# Altium footprint library Crystall.PcbLib: 10 footprints
Each footprint in its own frame and in the unit in brackets; x right, y up, seen from the top. Pads: shape width x height; smd on the part's side, far side on the other; paste and mask are expansions set on the pad; w line width, h text height; cw(c..) or ccw(c..) is an arc to the next point about the centre after c.
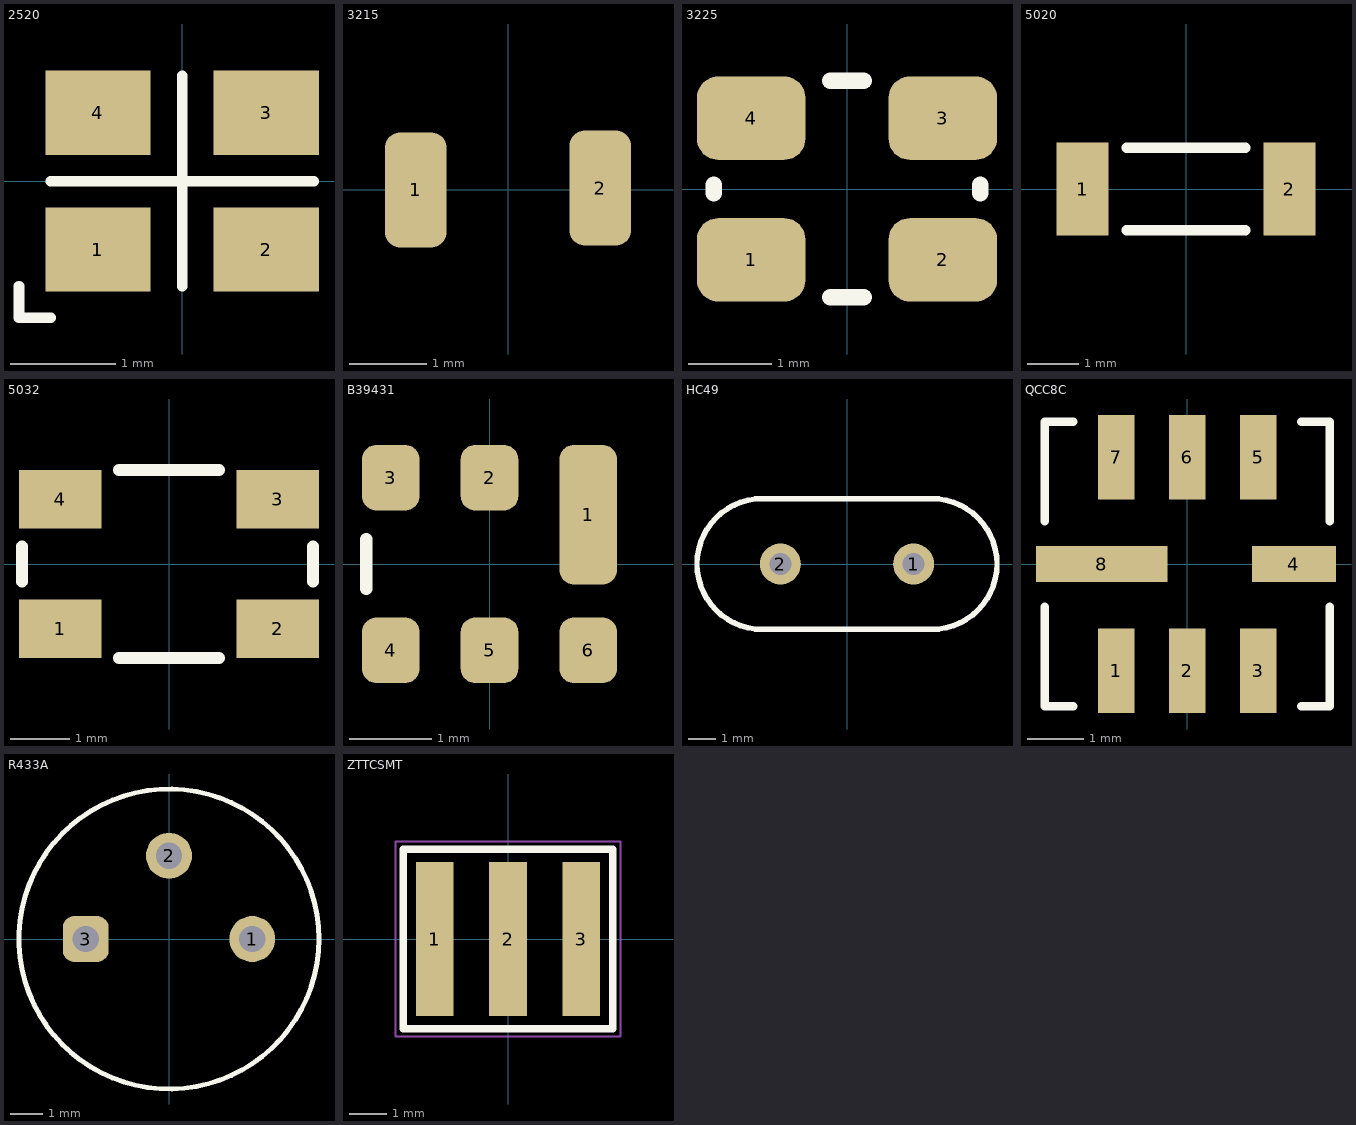
[diagram p0: the footprints below, top view; thin cyan lines are the x and y axes]

## 2520 [mm] "2.5x2.0x0.82mm Crystal"
height 0.8
pads (4):
  rect 1x0.8 smd: 1(-0.8,-0.65) 2(0.8,-0.65) 3(0.8,0.65) 4(-0.8,0.65)
Top Overlay:
  lines w0.1: -1.55,-1 -1.55,-1.3 -1.25,-1.3 ; -1.25,0 1.25,0 ; 0,-1 0,1
3D body "User Library-SM2520-4.step": height 0.8, standoff -0.03, extent -1.25,-1 1.25,1

## 3215 [mm]
pads (2):
  rrect50% 0.8x1.5 smd: 1(-1.2,0) 2(1.2,0.025)
3D body "User Library-KX-327NHT-1.step": height 0.72, standoff 0.01, extent -1.6,-0.75 1.6,0.75

## 3225 [mm] "3.2x2.5x0.8mm Crystal"
height 0.8
pads (4):
  rrect50% 1.3x1 smd: 1(-1.15,-0.85) 2(1.15,-0.85) 3(1.15,0.85) 4(-1.15,0.85)
Top Overlay:
  lines w0.2: -1.6,-0.05 -1.6,0.05 ; -0.2,-1.3 0.2,-1.3 ; -0.2,1.3 0.2,1.3 ; 1.6,-0.05 1.6,0.05
3D body "KX7.STEP": height 0.82, standoff 0.02, extent -1.607,-1.25 1.607,1.25

## 5020 [mm]
pads (2):
  rect 1x1.8 smd mask+0.1: 1(-2,0) 2(2,0)
Top Overlay:
  lines w0.2: -1.15,-0.8 1.15,-0.8 ; -1.15,0.8 1.15,0.8
3D body "ASB 10.STEP": height 1.01, standoff 0.01, extent -2.45,-0.9 2.45,0.9

## 5032 [mm]
pads (4):
  rect 1.4x1 smd: 1(-1.85,-1.1) 2(1.85,-1.1) 3(1.85,1.1) 4(-1.85,1.1)
Top Overlay:
  lines w0.2: -2.5,-0.3 -2.5,0.3 ; -0.85,-1.6 0.85,-1.6 ; -0.85,1.6 0.85,1.6 ; 2.45,-0.3 2.45,0.3
3D body "User Library-CRYSTALSMD5X32.step": height 1.01, standoff 0.01, extent -2.5,-1.6 2.5,1.6

## B39431 [mm]
pads (6):
  rrect50% 0.7x1.7 smd: 1(1.2,0.6)
  rrect50% 0.7x0.8 smd: 2(0,1.05) 3(-1.2,1.05) 4(-1.2,-1.05) 5(0,-1.05) 6(1.2,-1.05)
Top Overlay:
  lines w0.15: -1.5,-0.3 -1.5,0.3
3D body: height 1, standoff 0.1, extent -1.5,-1.5 1.5,1.5

## HC49 [mm]
pads (2):
  round 1.5 hole 0.8 mask+0: 1(2.43,0) 2(-2.45,0)
Top Overlay:
  lines w0.2: -3.11,-2.4 cw(c-3.11,0) -3.11,2.4 3.09,2.4 cw(c3.09,0) 3.09,-2.4 -3.11,-2.4
3D body "HC49US.STEP": height 3.52, standoff -2.48, extent -5.385,-2.3 5.365,2.3

## QCC8C [mm]
pads (8):
  rect 0.65x1.5 smd: 1(-1.27,-1.905) 2(0,-1.905) 3(1.27,-1.905) 5(1.27,1.905) 6(0,1.905) 7(-1.27,1.905)
  rect 1.5x0.65 smd: 4(1.905,0)
  rect 2.35x0.65 smd: 8(-1.524,0)
Top Overlay:
  lines w0.15: -2.54,-0.762 -2.54,-2.54 -2.032,-2.54 ; -2.54,0.762 -2.54,2.54 -2.032,2.54 ; 2.032,-2.54 2.54,-2.54 2.54,-0.762 ; 2.032,2.54 2.54,2.54 2.54,0.762
3D body "User Library-QCC8C.STEP": height 1.37, standoff -0.09, extent -2.495,-2.5 2.505,2.5

## R433A [mm]
pads (3):
  round 1.4 hole 0.8: 1(2.54,0) 2(0,2.54)
  rrect50% 1.4x1.4 hole 0.8: 3(-2.54,0)
Top Overlay:
  circle w0.15: c0,0 r4.575
3D body: height 3.3, standoff 0, extent -4.575,-4.575 4.575,4.575

## ZTTCSMT [mm] "ZTTCSMT"
height 1.6
pads (3):
  rect 1x4.1 smd mask+0.1: 1(-1.95,0) 2(0,0) 3(1.95,0)
Top Overlay:
  lines w0.2: -2.8,-2.4 2.8,-2.4 2.8,2.4 -2.8,2.4 -2.8,-2.4
Mechanical 15:
  lines w0.05: -0.5,0 0.5,0 ; 0,-0.5 0,0.5 ; -3,-2.6 3,-2.6 3,2.6 -3,2.6 -3,-2.6
3D body: height 1.6, standoff 0, extent -2.4,-2 2.4,2